# EAGLE library part USB-TYPE_C (library Connectors)
USB - C USB 3.1 (USB 3.1 Gen 2, Superspeed+) Receptacle Connector 24 Position Surface Mount, Right Angle; Through Hole
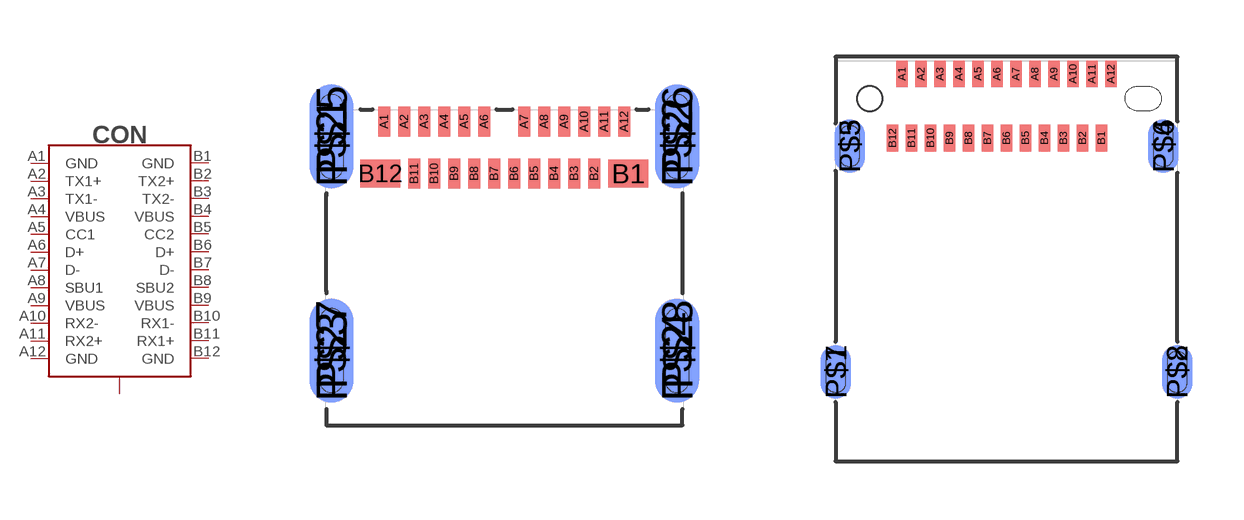
[diagram p30: symbol with the pads of 1054500101; footprints 1054500101, 12401832E402A]

Designator prefix CON

## USB-TYPE_C-1 (DIGIKEY#: WM12856TR-ND; MANF: Molex; MANF#: 1054500101)  [1054500101]
A1  GND
A2  TX1+
A3  TX1-
A4  VBUS
A5  CC1
A6  D+
A7  D-
A8  SBU1
A9  VBUS
A10  RX2-
A11  RX2+
A12  GND
B1  GND
B2  TX2+
B3  TX2-
B4  VBUS
B5  CC2
B6  D+
B7  D-
B8  SBU2
B9  VBUS
B10  RX1-
B11  RX1+
B12  GND
P$1  P$1
P$2  P$1
P$3  P$1
P$4  P$1
P$25  P$1
P$26  P$1
P$27  P$1
P$28  P$1

## USB-TYPE_C-2  [12401832E402A]
A1  GND
A2  TX1+
A3  TX1-
A4  VBUS
A5  CC1
A6  D+
A7  D-
A8  SBU1
A9  VBUS
A10  RX2-
A11  RX2+
A12  GND
B1  GND
B2  TX2+
B3  TX2-
B4  VBUS
B5  CC2
B6  D+
B7  D-
B8  SBU2
B9  VBUS
B10  RX1-
B11  RX1+
B12  GND
P$1  P$1
P$2  P$1
P$3  P$1
P$4  P$1
P$5  P$1
P$6  P$1
P$7  P$1
P$8  P$1

## Footprint 1054500101 (pad centres in mm)
Drawing <https://www.molex.com/pdm_docs/sd/1054500101_sd.pdf>
smd 0.3 x 0.75: A1 -3,3.65; A2 -2.5,3.65; A3 -2,3.65; A4 -1.5,3.65; A5 -1,3.65; A6 -0.5,3.65; A7 0.5,3.65; A8 1,3.65; A9 1.5,3.65; A10 2,3.65; A11 2.5,3.65; A12 3,3.65; B2 2.25,2.35; B3 1.75,2.35; B4 1.25,2.35; B5 0.75,2.35; B6 0.25,2.35; B7 -0.25,2.35; B8 -0.75,2.35; B9 -1.25,2.35; B10 -1.75,2.35; B11 -2.25,2.35
smd 1 x 0.7: B1 3.1,2.35; B12 -3.1,2.35
smd 1.1 x 2.6 bottom: P$1 -4.32,3.28; P$2 4.32,3.28; P$3 -4.32,-2.08; P$4 4.32,-2.08
smd 1.1 x 2.6: P$25 -4.32,3.28; P$26 4.32,3.28; P$27 -4.32,-2.08; P$28 4.32,-2.08

## Footprint 12401832E402A (pad centres in mm)
Drawing <https://www.molex.com/pdm_docs/sd/1054500101_sd.pdf>
smd 0.3 x 0.7: A1 -2.75,1.9; A2 -2.25,1.9; A3 -1.75,1.9; A4 -1.25,1.9; A5 -0.75,1.9; A6 -0.25,1.9; A7 0.25,1.9; A8 0.75,1.9; A9 1.25,1.9; A10 1.75,1.9; A11 2.25,1.9; A12 2.75,1.9; B1 2.5,0.21; B2 2,0.21; B3 1.5,0.21; B4 1,0.21; B5 0.5,0.21; B6 0,0.21; B7 -0.5,0.21; B8 -1,0.21; B9 -1.5,0.21; B10 -2,0.21; B11 -2.5,0.21; B12 -3,0.21
smd 0.8 x 1.4 bottom: P$1 -4.49,-5.95; P$2 4.49,-5.95; P$3 -4.13,0; P$4 4.13,0
smd 0.8 x 1.4: P$5 -4.13,0; P$6 4.13,0; P$7 -4.49,-5.95; P$8 4.49,-5.95
hole 0.65 at -3.6,1.25